# EAGLE library part 74*123 (library 74xx)
Retriggerable monostable MULTIVIBRATOR
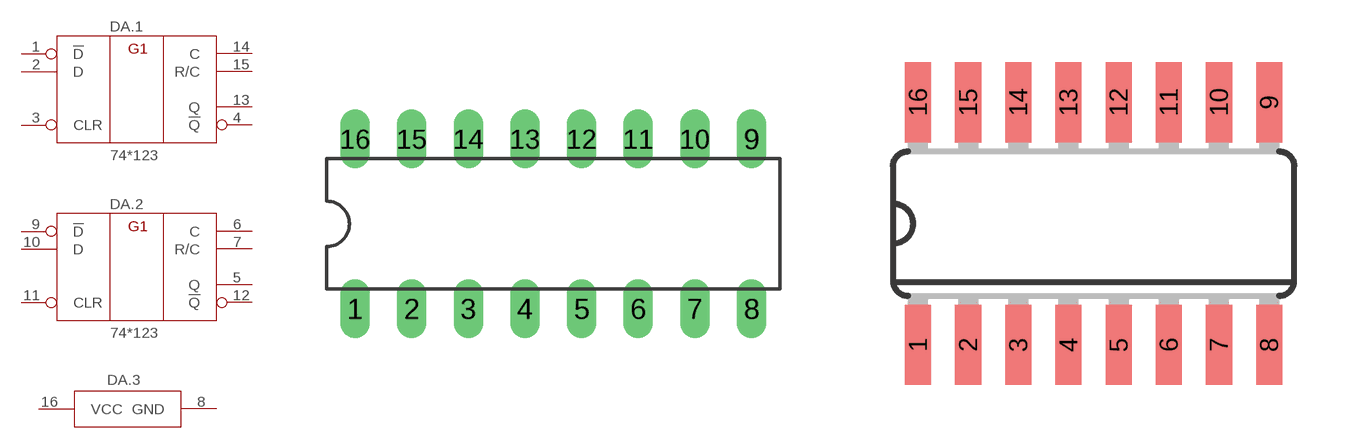
[diagram p45: symbol with the pads of DIL16; footprints DIL16, SO16]

Designator prefix DA; gates .1=74123 .2=74123 .3=PWRN

## 74123N, 74HC123N, 74HCT123N, 74LS123N  [DIL16]
1  .1:!D  in
2  .1:D  in
3  .1:CLR  in
4  .1:!Q  out
5  .2:Q  out
6  .2:C  in
7  .2:R/C  in
8  .3:GND  pwr
9  .2:!D  in
10  .2:D  in
11  .2:CLR  in
12  .2:!Q  out
13  .1:Q  out
14  .1:C  in
15  .1:R/C  in
16  .3:VCC  pwr

## 74123D, 74HC123D, 74HCT123D, 74LS123D  [SO16]
Pads as for DIL16

## 74LS123FK  [LCC20]
2  .1:!D  in
3  .1:D  in
4  .1:CLR  in
5  .1:!Q  out
7  .2:Q  out
8  .2:C  in
9  .2:R/C  in
10  .3:GND  pwr
12  .2:!D  in
13  .2:D  in
14  .2:CLR  in
15  .2:!Q  out
17  .1:Q  out
18  .1:C  in
19  .1:R/C  in
20  .3:VCC  pwr

## Footprint DIL16 (pad centres in mm)
Dual In Line Package
drill 0.813 long: 1 -8.89,-3.81; 2 -6.35,-3.81; 3 -3.81,-3.81; 4 -1.27,-3.81; 5 1.27,-3.81; 6 3.81,-3.81; 7 6.35,-3.81; 8 8.89,-3.81; 9 8.89,3.81; 10 6.35,3.81; 11 3.81,3.81; 12 1.27,3.81; 13 -1.27,3.81; 14 -3.81,3.81; 15 -6.35,3.81; 16 -8.89,3.81

## Footprint SO16 (pad centres in mm)
Small Outline package 150 mil
smd 0.66 x 2.032: 1 -4.445,-3.073; 2 -3.175,-3.073; 3 -1.905,-3.073; 4 -0.635,-3.073; 5 0.635,-3.073; 6 1.905,-3.073; 7 3.175,-3.073; 8 4.445,-3.073; 9 4.445,3.073; 10 3.175,3.073; 11 1.905,3.073; 12 0.635,3.073; 13 -0.635,3.073; 14 -1.905,3.073; 15 -3.175,3.073; 16 -4.445,3.073

## Footprint LCC20 (pad centres in mm)
Leadless Chip Carrier Ceramic Package
smd 0.8 x 3.4: 1 0,3.8
smd 0.8 x 2: 2 -1.27,4.5; 3 -2.54,4.5; 9 -2.54,-4.5; 10 -1.27,-4.5; 11 0,-4.5; 12 1.27,-4.5; 13 2.54,-4.5; 19 2.54,4.5; 20 1.27,4.5
smd 2 x 0.8: 4 -4.5,2.54; 5 -4.5,1.27; 6 -4.5,0; 7 -4.5,-1.27; 8 -4.5,-2.54; 14 4.5,-2.54; 15 4.5,-1.27; 16 4.5,0; 17 4.5,1.27; 18 4.5,2.54